# Altium integrated library AMS1117.IntLib: 1 symbol
Pins are listed as number, name and electrical type; pins without a type are passive.

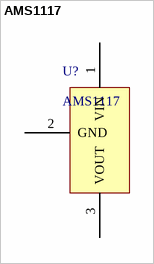
[diagram p0: symbol AMS1117]

## AMS1117
designator U?
footprint AMS1117
pins: 1 VIN, 2 GND, 3 VOUT